# EAGLE library part AT27C080 (library memory-atmel)
OTP EPROM 8-Megabit (1Mx8)
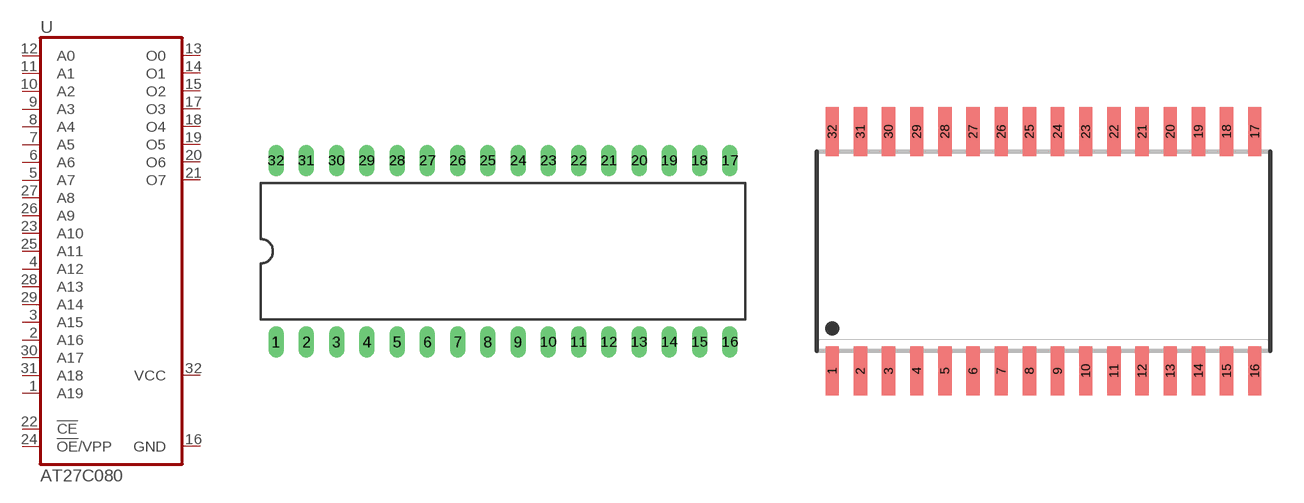
[diagram p18: symbol with the pads of DIL32; footprints DIL32, SO32X]

Designator prefix U

## AT27C08032P6  [DIL32]
1  A19  in
2  A16  in
3  A15  in
4  A12  in
5  A7  in
6  A6  in
7  A5  in
8  A4  in
9  A3  in
10  A2  in
11  A1  in
12  A0  in
13  O0  hiz
14  O1  hiz
15  O2  hiz
16  GND  pwr
17  O3  hiz
18  O4  hiz
19  O5  hiz
20  O6  hiz
21  O7  hiz
22  !CE!  in
23  A10  in
24  !OE!/VPP  in
25  A11  in
26  A9  in
27  A8  in
28  A13  in
29  A14  in
30  A17  in
31  A18  in
32  VCC  pwr

## AT27C080R  [SO32X]
Pads as for DIL32

## AT27C080J  [PLCC32R]
Pads as for DIL32

## AT27C080T  [TSOP32]
1  A11  in
2  A9  in
3  A8  in
4  A13  in
5  A14  in
6  A17  in
7  A18  in
8  VCC  pwr
9  A19  in
10  A16  in
11  A15  in
12  A12  in
13  A7  in
14  A6  in
15  A5  in
16  A4  in
17  A3  in
18  A2  in
19  A1  in
20  A0  in
21  O0  hiz
22  O1  hiz
23  O2  hiz
24  GND  pwr
25  O3  hiz
26  O4  hiz
27  O5  hiz
28  O6  hiz
29  O7  hiz
30  !CE!  in
31  A10  in
32  !OE!/VPP  in

## Footprint DIL32 (pad centres in mm)
Dual In Line Package
drill 0.813 long: 1 -19.05,-7.62; 2 -16.51,-7.62; 3 -13.97,-7.62; 4 -11.43,-7.62; 5 -8.89,-7.62; 6 -6.35,-7.62; 7 -3.81,-7.62; 8 -1.27,-7.62; 9 1.27,-7.62; 10 3.81,-7.62; 11 6.35,-7.62; 12 8.89,-7.62; 13 11.43,-7.62; 14 13.97,-7.62; 15 16.51,-7.62; 16 19.05,-7.62; 17 19.05,7.62; 18 16.51,7.62; 19 13.97,7.62; 20 11.43,7.62; 21 8.89,7.62; 22 6.35,7.62; 23 3.81,7.62; 24 1.27,7.62; 25 -1.27,7.62; 26 -3.81,7.62; 27 -6.35,7.62; 28 -8.89,7.62; 29 -11.43,7.62; 30 -13.97,7.62; 31 -16.51,7.62; 32 -19.05,7.62

## Footprint SO32X (pad centres in mm)
SMALL OUTLINE INTEGRATED CIRCUIT extra wide body 8.9 mm/JEDEC MO-120AC
smd 0.6 x 2.2: 1 -9.525,-5.4; 2 -8.255,-5.4; 3 -6.985,-5.4; 4 -5.715,-5.4; 5 -4.445,-5.4; 6 -3.175,-5.4; 7 -1.905,-5.4; 8 -0.635,-5.4; 9 0.635,-5.4; 10 1.905,-5.4; 11 3.175,-5.4; 12 4.445,-5.4; 13 5.715,-5.4; 14 6.985,-5.4; 15 8.255,-5.4; 16 9.525,-5.4; 17 9.525,5.4; 18 8.255,5.4; 19 6.985,5.4; 20 5.715,5.4; 21 4.445,5.4; 22 3.175,5.4; 23 1.905,5.4; 24 0.635,5.4; 25 -0.635,5.4; 26 -1.905,5.4; 27 -3.175,5.4; 28 -4.445,5.4; 29 -5.715,5.4; 30 -6.985,5.4; 31 -8.255,5.4; 32 -9.525,5.4

## Footprint PLCC32R (pad centres in mm)
PLASTIC LEADED CHIP CARRIER rectangle
smd 0.6 x 2.2: 1 0,6.9; 2 -1.27,6.9; 3 -2.54,6.9; 4 -3.81,6.9; 14 -3.81,-6.9; 15 -2.54,-6.9; 16 -1.27,-6.9; 17 0,-6.9; 18 1.27,-6.9; 19 2.54,-6.9; 20 3.81,-6.9; 30 3.81,6.9; 31 2.54,6.9; 32 1.27,6.9
smd 2.2 x 0.6: 5 -5.7,5.08; 6 -5.7,3.81; 7 -5.7,2.54; 8 -5.7,1.27; 9 -5.7,0; 10 -5.7,-1.27; 11 -5.7,-2.54; 12 -5.7,-3.81; 13 -5.7,-5.08; 21 5.7,-5.08; 22 5.7,-3.81; 23 5.7,-2.54; 24 5.7,-1.27; 25 5.7,0; 26 5.7,1.27; 27 5.7,2.54; 28 5.7,3.81; 29 5.7,5.08

## Footprint TSOP32 (pad centres in mm)
TSOP32 thin small outline package
smd 0.3 x 1.2: 1 -3.75,-9.7; 2 -3.25,-9.7; 3 -2.75,-9.7; 4 -2.25,-9.7; 5 -1.75,-9.7; 6 -1.25,-9.7; 7 -0.75,-9.7; 8 -0.25,-9.7; 9 0.25,-9.7; 10 0.75,-9.7; 11 1.25,-9.7; 12 1.75,-9.7; 13 2.25,-9.7; 14 2.75,-9.7; 15 3.25,-9.7; 16 3.75,-9.7; 17 3.75,9.7; 18 3.25,9.7; 19 2.75,9.7; 20 2.25,9.7; 21 1.75,9.7; 22 1.25,9.7; 23 0.75,9.7; 24 0.25,9.7; 25 -0.25,9.7; 26 -0.75,9.7; 27 -1.25,9.7; 28 -1.75,9.7; 29 -2.25,9.7; 30 -2.75,9.7; 31 -3.25,9.7; 32 -3.75,9.7